# Altium integrated library B6B-PH-K-S_LF__SN_.IntLib: 1 symbol
Pins are listed as number, name and electrical type; pins without a type are passive.

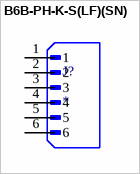
[diagram p0: symbol B6B-PH-K-S(LF)(SN)]

## B6B-PH-K-S(LF)(SN)
designator J?
MF: {'manufacturer': u'JST Sales America Inc.'}; MP: B6B-PH-K-S(LF)(SN); Package: None; Price: None; Value: *; Availability: Unavailable
footprint JST_B6B-PH-K-S(LF)(SN)
pins: 1, 2, 3, 4, 5, 6